# Altium schematic symbol library FS312F-G.SchLib: 1 symbol
Pins are listed as number, name and electrical type; pins without a type are passive.

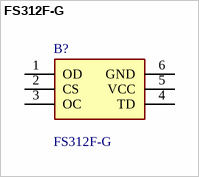
[diagram p0: symbol FS312F-G]

## FS312F-G
designator B?
One Cell Lithium-ion/Polymer Battery Protection IC; Manufacturer_Name: Fortune Semiconductor Corporation; Geometry.Height: 1.45mm; Manufacturer_Part_Number: FS312F-G; Mouser Part Number: *; Mouser Price/Stock: *; Arrow Part Number: *; Arrow Price/Stock: *; Datasheet Link: https://www.ic-fortune.com/upload/Download/FS312F-G-DS-12_EN.pdf
footprint SOT95P280X145-6N
pins: 1 OD, 2 CS, 3 OC, 4 TD, 5 VCC, 6 GND